# Altium footprint library SAMTEC_MTLW-101-05-G-S-000.PcbLib: 1 footprints
Each footprint in its own frame and in the unit in brackets; x right, y up, seen from the top. Pads: shape width x height; smd on the part's side, far side on the other; paste and mask are expansions set on the pad; w line width, h text height; cw(c..) or ccw(c..) is an arc to the next point about the centre after c.
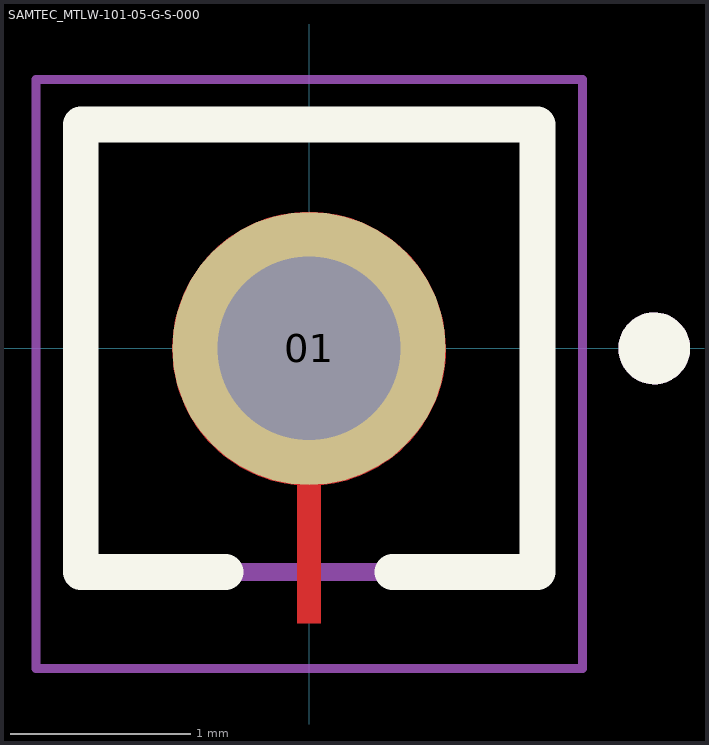
[diagram p0: the footprint, top view; thin cyan lines are the x and y axes]

## SAMTEC_MTLW-101-05-G-S-000 [mm]
pads (1):
  round 1.52 hole 1.02: 01(0,0)
Top Layer:
  region: 0.079,0.756 0.158,0.743 0.235,0.723 0.309,0.694 0.38,0.658 0.447,0.615 0.509,0.565 0.565,0.509 0.615,0.447 0.658,0.38 0.694,0.309 0.723,0.235 0.743,0.158 0.756,0.079 0.76,0 0.759,-0.038 0.756,-0.076 0.752,-0.113 0.745,-0.151 0.737,-0.187 0.727,-0.224 0.715,-0.259 0.701,-0.294 0.686,-0.329 0.669,-0.363 0.65,-0.395 0.63,-0.427 0.608,-0.458 0.585,-0.487 0.56,-0.516 0.534,-0.543 0.506,-0.569 0.477,-0.593 0.448,-0.616 0.417,-0.638 0.385,-0.658 0.352,-0.676 0.318,-0.692 0.283,-0.707 0.248,-0.721 0.212,-0.732 0.176,-0.742 0.139,-0.75 0.102,-0.756 0.065,-0.76 0.065,-1.53 -0.065,-1.53 -0.065,-0.76 -0.102,-0.756 -0.139,-0.75 -0.176,-0.742 -0.212,-0.732 -0.248,-0.721 -0.283,-0.707 -0.318,-0.692 -0.352,-0.676 -0.385,-0.658 -0.417,-0.638 -0.448,-0.616 -0.477,-0.593 -0.506,-0.569 -0.534,-0.543 -0.56,-0.516 -0.585,-0.487 -0.608,-0.458 -0.63,-0.427 -0.65,-0.395 -0.669,-0.363 -0.686,-0.329 -0.701,-0.294 -0.715,-0.259 -0.727,-0.224 -0.737,-0.187 -0.745,-0.151 -0.752,-0.113 -0.756,-0.076 -0.759,-0.038 -0.76,0 -0.756,0.079 -0.743,0.158 -0.723,0.235 -0.694,0.309 -0.658,0.38 -0.615,0.447 -0.565,0.509 -0.509,0.565 -0.447,0.615 -0.38,0.658 -0.309,0.694 -0.235,0.723 -0.158,0.743 -0.079,0.756 0,0.76
Top Overlay:
  circle w0.2: c1.92,0 r0.1
  lines w0.2: -0.465,-1.245 -1.27,-1.245 -1.27,1.245 1.27,1.245 1.27,-1.245 0.465,-1.245
Top Paste:
  region: 1.08,-0.455 0.62,-0.455 0.255,-0.77 0.255,-1.53 -0.255,-1.53 -0.255,-0.77 -0.62,-0.455 -1.08,-0.455 -1.08,1.085 1.08,1.085
Top Solder:
  region: 0.09,0.855 0.179,0.841 0.266,0.818 0.35,0.786 0.43,0.745 0.505,0.696 0.575,0.639 0.639,0.575 0.696,0.505 0.745,0.43 0.786,0.35 0.818,0.266 0.841,0.179 0.855,0.09 0.86,0 0.859,-0.038 0.856,-0.077 0.852,-0.116 0.846,-0.155 0.837,-0.194 0.828,-0.232 0.816,-0.269 0.803,-0.307 0.788,-0.343 0.771,-0.379 0.753,-0.413 0.733,-0.448 0.712,-0.481 0.689,-0.513 0.664,-0.544 0.639,-0.573 0.611,-0.602 0.583,-0.629 0.553,-0.655 0.523,-0.68 0.491,-0.703 0.458,-0.725 0.424,-0.745 0.389,-0.763 0.354,-0.78 0.318,-0.796 0.281,-0.809 0.243,-0.821 0.205,-0.831 0.165,-0.84 0.165,-1.63 -0.165,-1.63 -0.165,-0.84 -0.205,-0.831 -0.243,-0.821 -0.281,-0.809 -0.318,-0.796 -0.354,-0.78 -0.389,-0.763 -0.424,-0.745 -0.458,-0.725 -0.491,-0.703 -0.523,-0.68 -0.553,-0.655 -0.583,-0.629 -0.611,-0.602 -0.639,-0.573 -0.664,-0.544 -0.689,-0.513 -0.712,-0.481 -0.733,-0.448 -0.753,-0.413 -0.771,-0.379 -0.788,-0.343 -0.803,-0.307 -0.816,-0.269 -0.828,-0.232 -0.837,-0.194 -0.846,-0.155 -0.852,-0.116 -0.856,-0.077 -0.859,-0.038 -0.86,0 -0.855,0.09 -0.841,0.179 -0.818,0.266 -0.786,0.35 -0.745,0.43 -0.696,0.505 -0.639,0.575 -0.575,0.639 -0.505,0.696 -0.43,0.745 -0.35,0.786 -0.266,0.818 -0.179,0.841 -0.09,0.855 0,0.86
Mechanical 13:
  circle w0.2: c1.92,0 r0.1
  lines w0.1: -1.27,-1.245 -1.27,1.245 1.27,1.245 1.27,-1.245 -1.27,-1.245
Mechanical 15:
  lines w0.05: -1.52,-1.78 -1.52,1.495 1.52,1.495 1.52,-1.78 -1.52,-1.78